# EAGLE library part MT47H256M8 (library dan-dram)
Micron MT47H256M8 2Gb x8 DDR2 DRAM
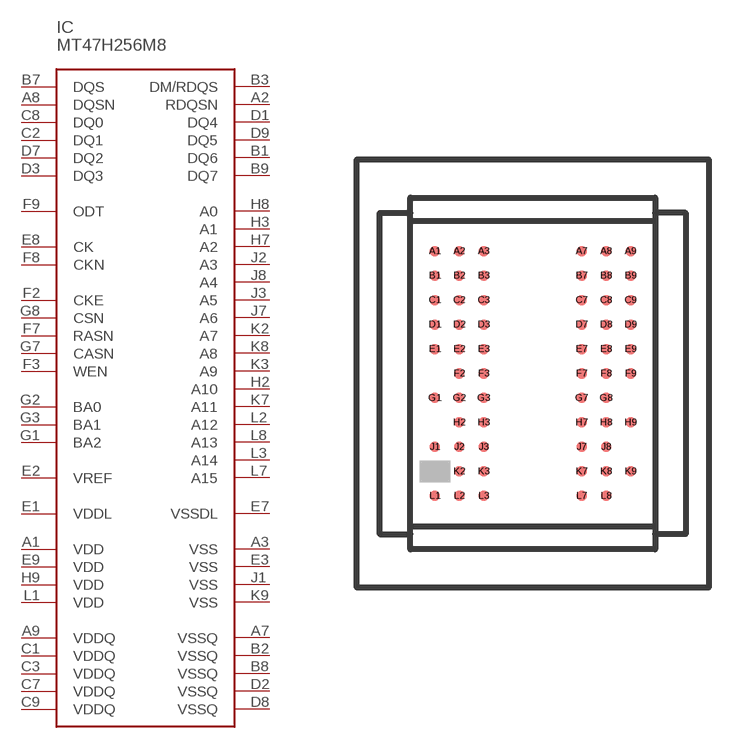
[diagram p3: symbol with the pads of FBGA60; footprint FBGA60]

Designator prefix IC

## MT47H256M8  [FBGA60]
A1  VDD  pas
A2  RDQSN  out
A3  VSS  pas
A7  VSSQ  pas
A8  DQSN
A9  VDDQ  pas
B1  DQ6
B2  VSSQ  pas
B3  DM/RDQS
B7  DQS
B8  VSSQ  pas
B9  DQ7
C1  VDDQ  pas
C2  DQ1
C3  VDDQ  pas
C7  VDDQ  pas
C8  DQ0
C9  VDDQ  pas
D1  DQ4
D2  VSSQ  pas
D3  DQ3
D7  DQ2
D8  VSSQ  pas
D9  DQ5
E1  VDDL  pas
E2  VREF  pas
E3  VSS  pas
E7  VSSDL  pas
E8  CK  in
E9  VDD  pas
F2  CKE  in
F3  WEN  in
F7  RASN  in
F8  CKN  in
F9  ODT  in
G1  BA2  in
G2  BA0  in
G3  BA1  in
G7  CASN  in
G8  CSN  in
H2  A10  in
H3  A1  in
H7  A2  in
H8  A0  in
H9  VDD  pas
J1  VSS  pas
J2  A3  in
J3  A5  in
J7  A6  in
J8  A4  in
K2  A7  in
K3  A9  in
K7  A11  in
K8  A8  in
K9  VSS  pas
L1  VDD  pas
L2  A12  in
L3  A14  in
L7  A15  in
L8  A13  in

## Footprint FBGA60 (pad centres in mm)
60-ball FBGA (8mmx11.5mm) For DDR2 x8 part; from Micron MT47H128M8 datasheet
smd 0.343 x 0.343: A1 -3.2,4; A2 -2.4,4; A3 -1.6,4; A7 1.6,4; A8 2.4,4; A9 3.2,4; B1 -3.2,3.2; B2 -2.4,3.2; B3 -1.6,3.2; B7 1.6,3.2; B8 2.4,3.2; B9 3.2,3.2; C1 -3.2,2.4; C2 -2.4,2.4; C3 -1.6,2.4; C7 1.6,2.4; C8 2.4,2.4; C9 3.2,2.4; D1 -3.2,1.6; D2 -2.4,1.6; D3 -1.6,1.6; D7 1.6,1.6; D8 2.4,1.6; D9 3.2,1.6; E1 -3.2,0.8; E2 -2.4,0.8; E3 -1.6,0.8; E7 1.6,0.8; E8 2.4,0.8; E9 3.2,0.8; F2 -2.4,0; F3 -1.6,0; F7 1.6,0; F8 2.4,0; F9 3.2,0; G1 -3.2,-0.8; G2 -2.4,-0.8; G3 -1.6,-0.8; G7 1.6,-0.8; G8 2.4,-0.8; H2 -2.4,-1.6; H3 -1.6,-1.6; H7 1.6,-1.6; H8 2.4,-1.6; H9 3.2,-1.6; J1 -3.2,-2.4; J2 -2.4,-2.4; J3 -1.6,-2.4; J7 1.6,-2.4; J8 2.4,-2.4; K2 -2.4,-3.2; K3 -1.6,-3.2; K7 1.6,-3.2; K8 2.4,-3.2; K9 3.2,-3.2; L1 -3.2,-4; L2 -2.4,-4; L3 -1.6,-4; L7 1.6,-4; L8 2.4,-4